# EAGLE library part SSW-118-02-S-S (library con-samtec)
THROUGH-HOLE .025" SQ POST SOCKET Source: Samtec SSW.pdf
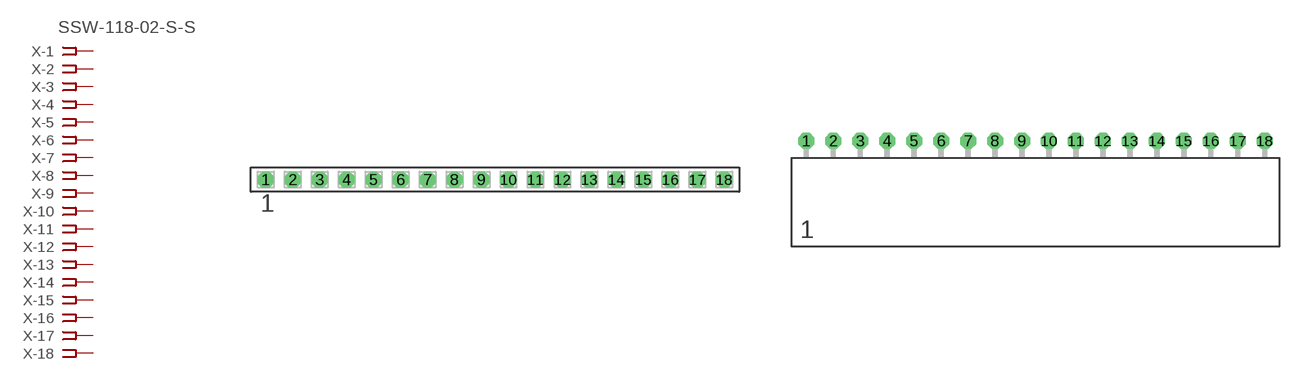
[diagram p86: symbol with the pads of SSW-118-02-S-S; footprints SSW-118-02-S-S, SSW-118-02-S-S-RA]

Designator prefix X; gates -1=FPINV -2=FPIN -3=FPIN -4=FPIN -5=FPIN -6=FPIN -7=FPIN -8=FPIN -9=FPIN -10=FPIN -11=FPIN -12=FPIN -13=FPIN -14=FPIN -15=FPIN -16=FPIN -17=FPIN -18=FPIN

## SSW-118-02-S-S (MPN: SSW-118-02-S-S; OC_FARNELL: unknown; OC_NEWARK: 11P9608)  [SSW-118-02-S-S]
1  -1:1  pas
2  -2:1  pas
3  -3:1  pas
4  -4:1  pas
5  -5:1  pas
6  -6:1  pas
7  -7:1  pas
8  -8:1  pas
9  -9:1  pas
10  -10:1  pas
11  -11:1  pas
12  -12:1  pas
13  -13:1  pas
14  -14:1  pas
15  -15:1  pas
16  -16:1  pas
17  -17:1  pas
18  -18:1  pas

## SSW-118-02-S-S-RA (MPN: SSW-118-02-S-S-RA; OC_FARNELL: unknown; OC_NEWARK: 11P9609)  [SSW-118-02-S-S-RA]
Pads as for SSW-118-02-S-S

## Footprint SSW-118-02-S-S (pad centres in mm)
THROUGH-HOLE .025" SQ POST SOCKET Source: Samtec SSW.pdf
drill 1 pad 1.5 octagon: 1 -21.59,0; 2 -19.05,0; 3 -16.51,0; 4 -13.97,0; 5 -11.43,0; 6 -8.89,0; 7 -6.35,0; 8 -3.81,0; 9 -1.27,0; 10 1.27,0; 11 3.81,0; 12 6.35,0; 13 8.89,0; 14 11.43,0; 15 13.97,0; 16 16.51,0; 17 19.05,0; 18 21.59,0

## Footprint SSW-118-02-S-S-RA (pad centres in mm)
THROUGH-HOLE .025" SQ POST SOCKET Source: Samtec SSW.pdf
drill 1 pad 1.5 octagon: 1 -21.59,1.524; 2 -19.05,1.524; 3 -16.51,1.524; 4 -13.97,1.524; 5 -11.43,1.524; 6 -8.89,1.524; 7 -6.35,1.524; 8 -3.81,1.524; 9 -1.27,1.524; 10 1.27,1.524; 11 3.81,1.524; 12 6.35,1.524; 13 8.89,1.524; 14 11.43,1.524; 15 13.97,1.524; 16 16.51,1.524; 17 19.05,1.524; 18 21.59,1.524